# Altium footprint library SODFL4725X110N.PcbLib: 1 footprints
Each footprint in its own frame and in the unit in brackets; x right, y up, seen from the top. Pads: shape width x height; smd on the part's side, far side on the other; paste and mask are expansions set on the pad; w line width, h text height; cw(c..) or ccw(c..) is an arc to the next point about the centre after c.
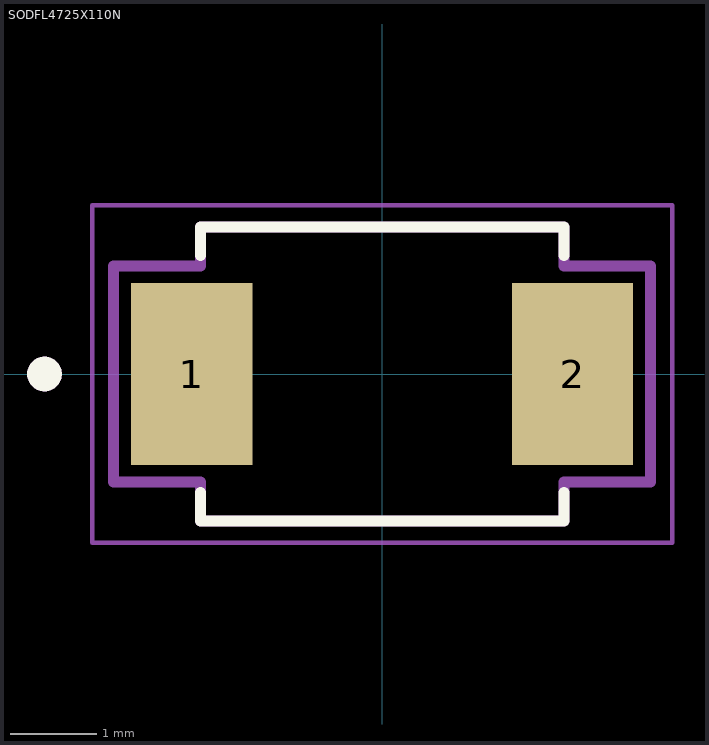
[diagram p0: the footprint, top view; thin cyan lines are the x and y axes]

## SODFL4725X110N [mm]
pads (2):
  rect 1.4x2.1 smd paste-2: 1(-2.2,0) 2(2.2,0)
Top Overlay:
  circle w0.2: c-3.9,0 r0.1
  lines w0.127: -2.1,-1.37 -2.1,-1.7 2.1,-1.7 2.1,-1.37 ; -2.1,1.37 -2.1,1.7 2.1,1.7 2.1,1.37
Top Paste:
  region: 2.8,-0.95 1.6,-0.95 1.6,0.95 2.8,0.95
  region: -1.6,-0.95 -2.8,-0.95 -2.8,0.95 -1.6,0.95
Mechanical 13:
  circle w0.2: c-3.9,0 r0.1
  lines w0.127: -3.1,-1.25 -3.1,1.25 -2.1,1.25 -2.1,1.7 2.1,1.7 2.1,1.25 3.1,1.25 3.1,-1.25 2.1,-1.25 2.1,-1.7 -2.1,-1.7 -2.1,-1.25 -3.1,-1.25
Mechanical 15:
  lines w0.05: -3.35,-1.95 3.35,-1.95 3.35,1.95 -3.35,1.95 -3.35,-1.95